# EAGLE library part AD8130 (library AD8129)
Low Cost 270 MHz Differential Receiver Amplifier
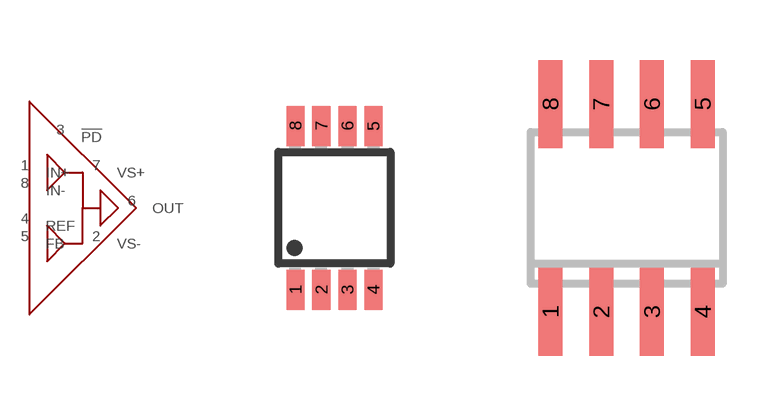
[diagram p1: symbol with the pads of MSOP8; footprints MSOP8, SOIC8]

Designator prefix -

## AD8130ARMZ  [MSOP8]
1  IN+
2  VS-
3  !PD
4  REF
5  FB
6  OUT
7  VS+
8  IN-

## AD8130ARZ  [SOIC8]
Pads as for MSOP8

## Footprint MSOP8 (pad centres in mm)
8-Lead Mini Small Outline Package
smd 0.45 x 1: 1 -0.975,-2.05; 2 -0.325,-2.05; 3 0.325,-2.05; 4 0.975,-2.05; 5 0.975,2.05; 6 0.325,2.05; 7 -0.325,2.05; 8 -0.975,2.05

## Footprint SOIC8 (pad centres in mm)
8-Lead Standard Small Outline Package
smd 0.6 x 2.2: 1 -1.905,-2.6; 2 -0.635,-2.6; 3 0.635,-2.6; 4 1.905,-2.6; 5 1.905,2.6; 6 0.635,2.6; 7 -0.635,2.6; 8 -1.905,2.6